# EAGLE library part DRV8800 (library GadgetFactory_v1)
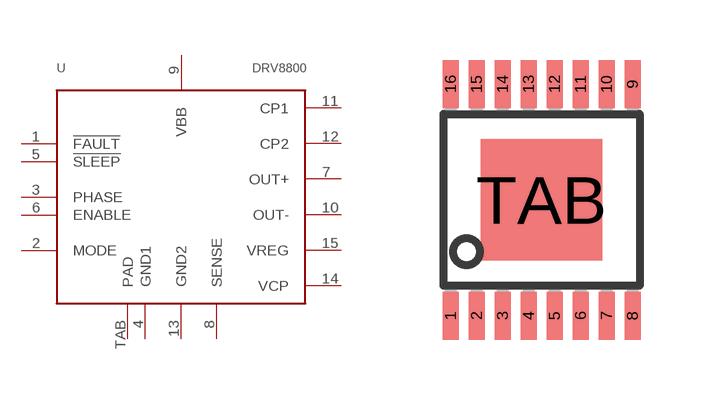
[diagram p64: symbol with the pads of HTSSOP16_PWP; footprint HTSSOP16_PWP]

Designator prefix U

## DRV8800  [HTSSOP16_PWP]
1  !FAULT  out
2  MODE  in
3  PHASE  in
4  GND1  pas
5  !SLEEP  in
6  ENABLE  in
7  OUT+  out
8  SENSE  pas
9  VBB  pwr
10  OUT-  out
11  CP1  pas
12  CP2  pas
13  GND2  pas
14  VCP  pas
15  VREG  pas
16  NC  nc
TAB  PAD  pas

## Footprint HTSSOP16_PWP (pad centres in mm)
PLASTIC SMALL-OUTLINE PACKAGE SO 16 JEDEC MO-153, PW Type Source: www.ti.com/.. slvs087l.pdf
smd 0.4 x 1.2: 1 -2.275,-2.9; 2 -1.625,-2.9; 3 -0.975,-2.9; 4 -0.325,-2.9; 5 0.325,-2.9; 6 0.975,-2.9; 7 1.625,-2.9; 8 2.275,-2.9; 9 2.275,2.9; 10 1.625,2.9; 11 0.975,2.9; 12 0.325,2.9; 13 -0.325,2.9; 14 -0.975,2.9; 15 -1.625,2.9; 16 -2.275,2.9
smd 3.048 x 3.048: TAB 0,0